# Altium integrated library Big_Library_Cap_Electrolytic_THT.IntLib: 10 symbols
Pins are listed as number, name and electrical type; pins without a type are passive.

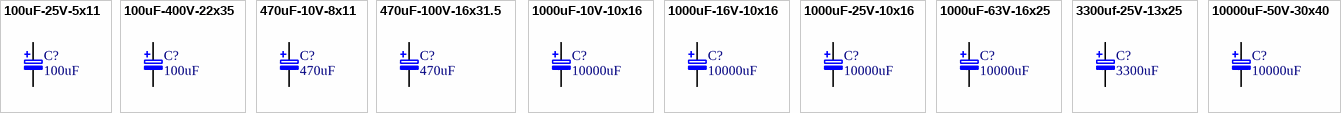
[diagram p0: symbols 100uF-25V-5x11 to 10000uF-50V-30x40]

## 100uF-25V-5x11
designator C?, comment 100uF
Voltage: 25V; Tolerance: 20%; Temp Class: 105C; Pitch: 2mm; Wire Diameter: 0.5; ComponentLink1Description: Link; Capacitance: 100uF; Diameter: 5mm; Length: 11mm; Mounting: Vertical
footprint D5-L11-P2-W0.5 (Radial Electrolytic Cap)
pins: 1 +, 2 -

## 100uF-400V-22x35
designator C?, comment 100uF
Voltage: 400V; Tolerance: 20%; Temp Class: 105C; Pitch: 10; Wire Diameter: 1.2mm; ComponentLink1Description: Link; Capacitance: 100uF; Diameter: 22; Length: 35; Mounting: Vertical
footprint D22-L35-P10-W1.15
pins: 1 +, 2 -

## 470uF-10V-8x11
designator C?, comment 470uF
Voltage: 10V; Tolerance: 20%; Temp Class: 105C; Pitch: 3.5mm; Wire Diameter: 0.5; ComponentLink1Description: Link; Capacitance: 470uF; Diameter: 8mm; Length: 11mm; Mounting: Vertical
footprint D8-L11-P3.5-W0.5 (Radial Electrolytic Cap)
pins: 1 +, 2 -

## 470uF-100V-16x31.5
designator C?, comment 470uF
470u 100V Aluminium THT Cap; Tolerance: 20%; Temp Class: 105C; Pitch: 7.5mm; Wire Diameter: 0.8mm; ComponentLink1Description: Link; ComponentLink1URL: https://www.ozdisan.com/pasif-komponentler/kapasitorler/aluminyum-kapasitorler/PKRM-100V471MJ315/30435; Capacitance: 470uF; Voltage: 100V; Diameter: 16mm; Length: 35.5mm; Mounting: Vertical
footprint D16-L35-P7.5-W0.8
pins: 1 +, 2 -

## 1000uF-10V-10x16
designator C?, comment 10000uF
Voltage: 10V; Tolerance: 20%; Temp Class: 105C; Pitch: 5mm; Wire Diameter: 0.6mm; ComponentLink1Description: Link; Capacitance: 10000uF; Diameter: 10mm; Length: 16mm; Mounting: Vertical
footprint D10-L16-P5-W0.6 (Radial Capacitor)
pins: 1 +, 2 -

## 1000uF-16V-10x16
designator C?, comment 10000uF
Voltage: 16V; Tolerance: 20%; Temp Class: 105C; Pitch: 5mm; Wire Diameter: 0.6mm; ComponentLink1Description: Link; Capacitance: 10000uF; Diameter: 10mm; Length: 16mm; Mounting: Vertical
footprint D10-L16-P5-W0.6 (Radial Capacitor)
pins: 1 +, 2 -

## 1000uF-25V-10x16
designator C?, comment 10000uF
Voltage: 25V; Tolerance: 20%; Temp Class: 105C; Pitch: 5mm; Wire Diameter: 0.6mm; ComponentLink1Description: Link; Capacitance: 10000uF; Diameter: 10mm; Length: 16mm; Mounting: Vertical
footprint D10-L16-P5-W0.6 (Radial Capacitor)
pins: 1 +, 2 -

## 1000uF-63V-16x25
designator C?, comment 10000uF
Voltage: 63V; Tolerance: 20%; Temp Class: 105C; Pitch: 7.5mm; Wire Diameter: 0.8mm; ComponentLink1Description: Link; Capacitance: 10000uF; Diameter: 16mm; Length: 25mm; Mounting: Vertical
footprint D16-L25-P7.5-W0.8
pins: 1 +, 2 -

## 3300uf-25V-13x25
designator C?, comment 3300uF
Voltage: 25V; Tolerance: 20%; Temp Class: 105C; Pitch: 5mm; Wire Diameter: 0.6mm; ComponentLink1Description: Link; Capacitance: 3300uF; Diameter: 13mm; Length: 25mm; Mounting: Vertical
footprint D13-L25-P5-W0.6 (Radial Capacitor)
pins: 1 +, 2 -

## 10000uF-50V-30x40
designator C?, comment 10000uF
Voltage: 50V; Tolerance: 20%; Temp Class: 105C; Pitch: 10mm; Wire Diameter: 1.2mm; ComponentLink1Description: Link; Capacitance: 10000uF; Diameter: 30mm; Length: 40mm; Mounting: Vertical
footprint D30-L36-P10-W1.15
footprint D30-L50-P10-W1.15
pins: 1 +, 2 -